# Altium footprint library 封装库.PcbLib: 324 footprints (part 14 of 21)
Each footprint in its own frame and in the unit in brackets; x right, y up, seen from the top. Pads: shape width x height; smd on the part's side, far side on the other; paste and mask are expansions set on the pad; w line width, h text height; cw(c..) or ccw(c..) is an arc to the next point about the centre after c.
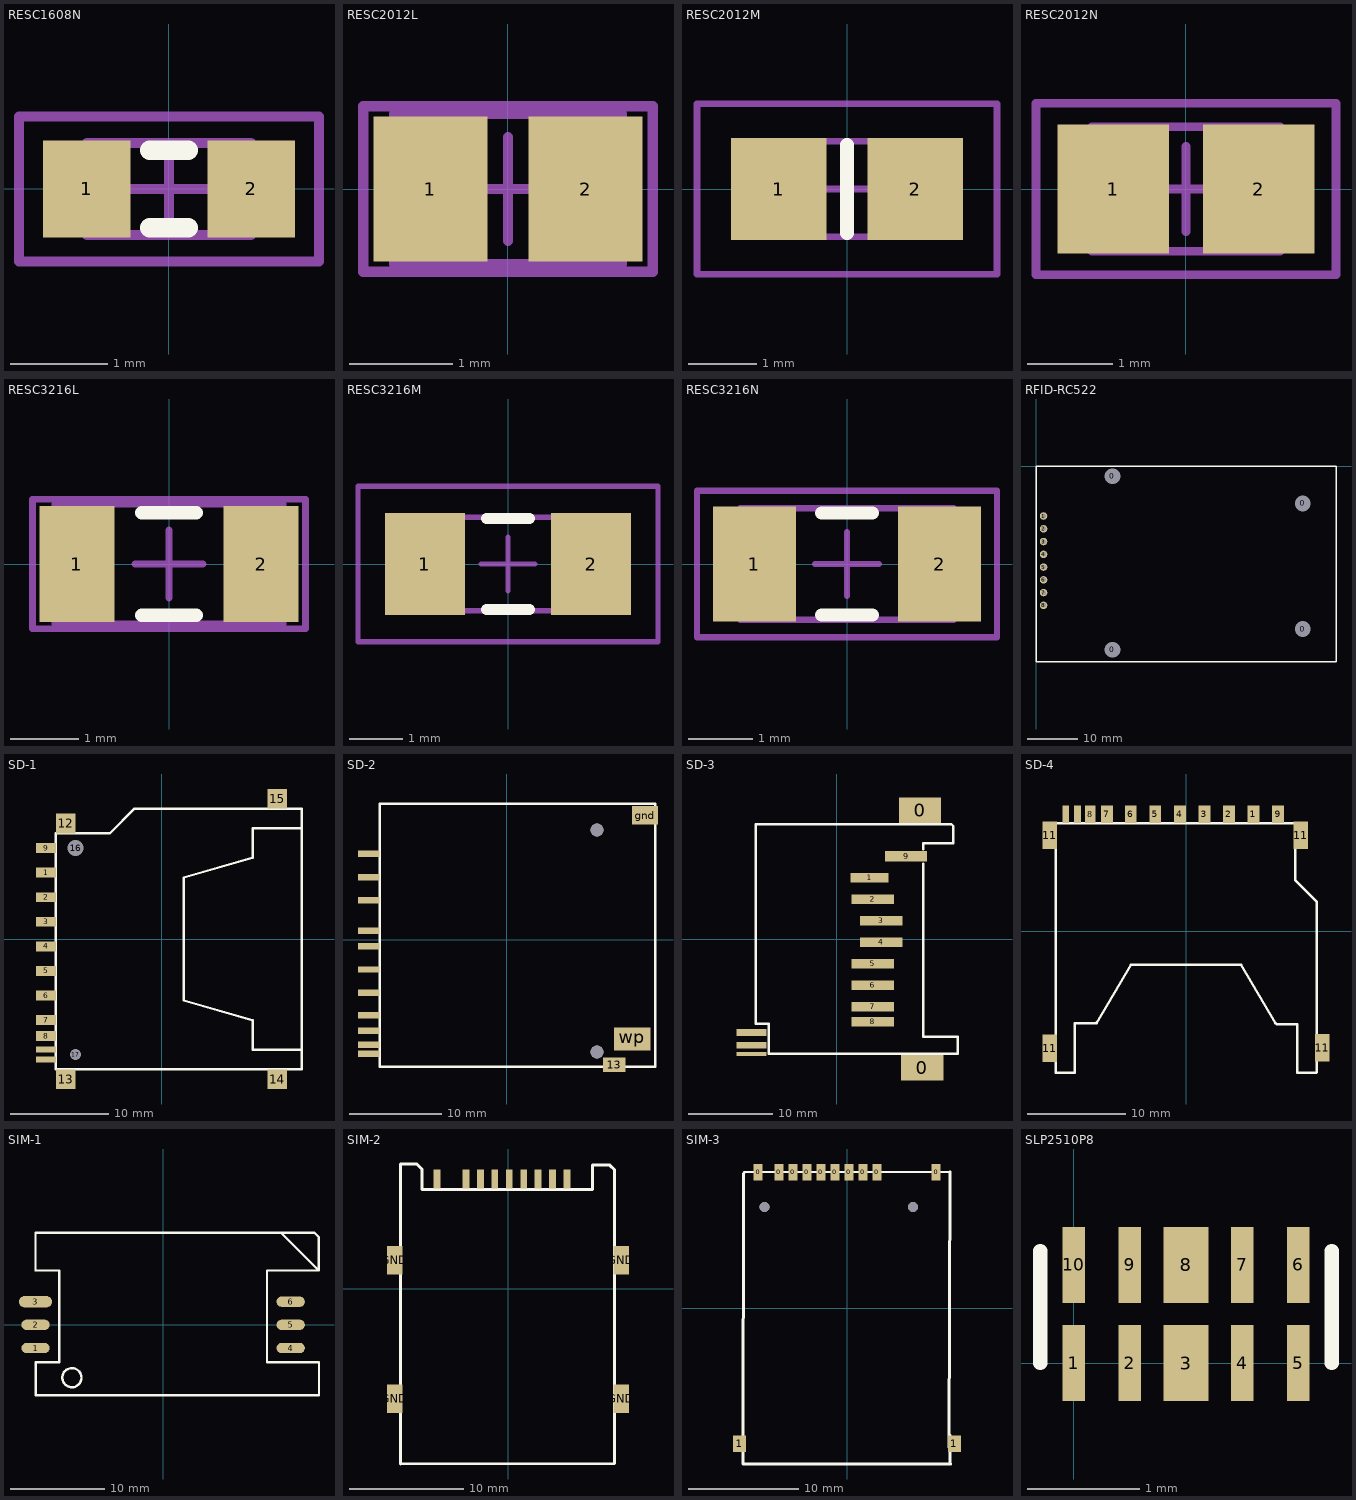
[diagram p13: the footprints below, top view; thin cyan lines are the x and y axes]

## RESC1608N [mm] "Chip Resistor, Body 1.6x0.8mm, IPC Medium Density"
height 0.6
pads (2):
  rect 0.9x1 smd: 1(-0.85,0) 2(0.85,0)
Top Overlay:
  lines w0.2: -0.2,-0.4 0.2,-0.4 ; -0.2,0.4 0.2,0.4
Mechanical 13:
  lines w0.1: -0.85,-0.475 -0.85,0.475 0.85,0.475 0.85,-0.475 -0.85,-0.475
Mechanical 15:
  lines w0.1: -0.475,0 0.475,0 ; 0,-0.475 0,0.475 ; -1.55,-0.75 -1.55,0.75 1.55,0.75 1.55,-0.75 -1.55,-0.75
3D body: height 0.6, standoff 0, extent -0.85,-0.475 0.85,0.475

## RESC2012L [mm] "Chip Resistor, Body 2.0x1.2mm, IPC Low Density"
height 0.7
pads (2):
  rect 1.1x1.4 smd: 1(-0.75,0) 2(0.75,0)
Mechanical 13:
  lines w0.1: -1.1,-0.725 1.1,-0.725 1.1,0.725 -1.1,0.725 -1.1,-0.725
Mechanical 15:
  lines w0.1: -0.5,0 0.5,0 ; 0,-0.5 0,0.5 ; -1.4,-0.8 1.4,-0.8 1.4,0.8 -1.4,0.8 -1.4,-0.8
3D body: height 1.4, standoff 0, extent -1.1,-0.725 1.1,0.725

## RESC2012M [mm] "Chip Resistor, Body 2.0x1.2mm, IPC Low Density"
height 0.7
pads (2):
  rect 1.4x1.5 smd: 1(-1,0) 2(1,0)
Top Overlay:
  lines w0.2: 0,-0.65 0,0.65
Mechanical 13:
  lines w0.1: -1.075,-0.7 -1.075,0.7 1.075,0.7 1.075,-0.7 -1.075,-0.7
Mechanical 15:
  lines w0.1: -0.5,0 0.5,0 ; 0,-0.5 0,0.5 ; -2.2,-1.25 -2.2,1.25 2.2,1.25 2.2,-1.25 -2.2,-1.25
3D body: height 0.7, standoff 0, extent -1.075,-0.7 1.075,0.7

## RESC2012N [mm] "Chip Resistor, Body 2.0x1.2mm, IPC Low Density"
height 1.1
pads (2):
  rect 1.3x1.5 smd: 1(-0.85,0) 2(0.85,0)
Mechanical 13:
  lines w0.1: -1.1,-0.725 1.1,-0.725 1.1,0.725 -1.1,0.725 -1.1,-0.725
Mechanical 15:
  lines w0.1: -0.5,0 0.5,0 ; 0,-0.5 0,0.5 ; -1.75,-1 1.75,-1 1.75,1 -1.75,1 -1.75,-1
3D body: height 1.1, standoff 0, extent -1.1,-0.725 1.1,0.725

## RESC3216L [mm] "Chip Resistor, Body 3.2x1.6mm, IPC High Density"
height 0.71
pads (2):
  rect 1.1x1.7 smd: 1(-1.35,0) 2(1.35,0)
Top Overlay:
  lines w0.2: -0.4,-0.75 0.4,-0.75 ; -0.4,0.75 0.4,0.75
Mechanical 13:
  lines w0.1: -1.675,-0.875 -1.675,0.875 1.675,0.875 1.675,-0.875 -1.675,-0.875
Mechanical 15:
  lines w0.1: -0.5,0 0.5,0 ; 0,-0.5 0,0.5 ; -2,-0.95 -2,0.95 2,0.95 2,-0.95 -2,-0.95
3D body: height 0.71, standoff 0, extent -1.675,-0.875 1.675,0.875

## RESC3216M [mm] "Chip Resistor, Body 3.2x1.6mm, IPC Low Density"
height 0.71
pads (2):
  rect 1.5x1.9 smd: 1(-1.55,0) 2(1.55,0)
Top Overlay:
  lines w0.2: -0.4,-0.85 0.4,-0.85 ; -0.4,0.85 0.4,0.85
Mechanical 13:
  lines w0.1: -1.675,-0.875 -1.675,0.875 1.675,0.875 1.675,-0.875 -1.675,-0.875
Mechanical 15:
  lines w0.1: -0.5,0 0.5,0 ; 0,-0.5 0,0.5 ; -2.8,-1.45 -2.8,1.45 2.8,1.45 2.8,-1.45 -2.8,-1.45
3D body: height 0.71, standoff 0, extent -1.675,-0.875 1.675,0.875

## RESC3216N [mm] "Chip Resistor, Body 3.2x1.6mm, IPC Medium Density"
height 0.71
pads (2):
  rect 1.3x1.8 smd: 1(-1.45,0) 2(1.45,0)
Top Overlay:
  lines w0.2: -0.4,-0.8 0.4,-0.8 ; -0.4,0.8 0.4,0.8
Mechanical 13:
  lines w0.1: -1.675,-0.875 1.675,-0.875 1.675,0.875 -1.675,0.875 -1.675,-0.875
Mechanical 15:
  lines w0.1: -0.5,0 0.5,0 ; 0,-0.5 0,0.5 ; -2.35,-1.15 2.35,-1.15 2.35,1.15 -2.35,1.15 -2.35,-1.15
3D body: height 0.71, standoff 0, extent -1.675,-0.875 1.675,0.875

## RFID-RC522 [mm] "RC522模块"
pads (12):
  round 2 hole 3.15 unplated: 0(15.2,-36.55) 0(15.2,-2.05) 0(53.1,-32.45) 0(53.1,-7.45)
  round 1.5 hole 0.9 unplated: 1(1.5,-9.95) 2(1.5,-12.49) 3(1.5,-15.03) 4(1.5,-17.57) 5(1.5,-20.11) 6(1.5,-22.65) 7(1.5,-25.19) 8(1.5,-27.73)
Top Overlay:
  lines w0.254: 0,-39 0,0 59.7,0 59.7,-39 0,-39

## SD-1 [mm]
pads (17):
  rect 2x1 smd: 1(-11.75,6.75) 2(-11.75,4.25) 3(-11.75,1.75) 4(-11.75,-0.75) 5(-11.75,-3.25) 6(-11.75,-5.75) 7(-11.75,-8.25) 8(-11.75,-9.875) 9(-11.75,9.25)
  rect 2x0.6 smd: 10(-11.75,-12.25) 11(-11.75,-11.25)
  rect 2x2 smd: 12(-9.75,11.75) 13(-9.75,-14.25) 14(11.75,-14.25) 15(11.75,14.25)
  round 1.5 hole 1.6: 16(-8.75,9.25)
  round 1 hole 1.1: 17(-8.75,-11.75)
Top Overlay:
  lines w0.254: 14.25,-11.25 9.25,-11.25 9.25,-8.25 2.25,-6.25 2.25,6.25 9.25,8.25 9.25,11.25 14.25,11.25 ; -10.75,-13.25 -10.75,10.75 -5.25,10.75 -2.75,13.25 14.25,13.25 14.25,-13.25 -10.75,-13.25

## SD-2 [mm]
pads (14):
  rect 2.35x0.7 smd: 1(-14.935,6.8) 2(-14.935,4.3) 3(-14.935,1) 4(-14.935,-0.7) 5(-14.935,-3.2) 6(-14.935,-5.7) 7(-14.935,-8.13) 8(-14.935,-9.82) 9(-14.935,9.3) cd(-14.935,-11.32) com(-14.935,-12.32)
  rect 2.4x1.6 smd: 13(11.595,-13.5)
  rect 2.8x2 smd: gnd(14.935,13.5)
  rect 3.95x2.5 smd: wp(13.565,-10.7)
via 9.735,11.9 diameter 1.4 hole 1.4
via 9.735,-12.1 diameter 1.4 hole 1.4
Top Overlay:
  lines w0.254: -13.76,-13.72 16.045,-13.72 16.045,14.72 -13.76,14.72 -13.76,-13.72

## SD-3 [mm]
pads (14):
  rect 5x3 smd: 0(9.843,15.24) 0(10.097,-15.24)
  rect 4.5x1.143 smd: 1(3.874,7.239)
  rect 5x1.143 smd: 2(4.255,4.699) 3(5.271,2.159) 4(5.271,-0.381) 5(4.255,-2.921) 6(4.255,-5.461) 7(4.255,-8.001) 8(4.255,-9.779)
  rect 5x1.27 smd: 9(8.192,9.779)
  rect 3.556x0.8 smd: 10(-10.097,-11.049) 11(-10.097,-12.573)
  rect 3.556x0.5 smd: 12(-10.097,-13.589)
Top Overlay:
  lines w0.3: 7.683,-13.589 14.287,-13.589 14.287,-11.557 10.223,-11.557 10.223,8.889 ; 8.191,-13.589 -8.065,-13.589 -8.065,-10.033 -9.589,-10.033 -9.589,13.589 8.191,13.589 13.525,13.589 13.779,13.335 13.779,11.303 10.223,11.303 10.223,10.59

## SD-4 [mm]
pads (15):
  rect 1.2x1.8 smd: 1(6.858,11.917) 2(4.369,11.917) 3(1.875,11.908) 4(-0.625,11.908) 5(-3.125,11.908) 6(-5.625,11.908) 7(-8.05,11.908) 9(9.375,11.908)
  rect 1.1x1.8 smd: 8(-9.754,11.917)
  rect 0.7x1.8 smd: 10(-11.05,11.908) 12(-12.243,11.917)
  rect 1.5x2.8 smd: 11(-13.868,-11.917) 11(-13.868,9.774) 11(11.684,9.774) 11(13.868,-11.866)
Top Overlay:
  lines w0.254: -11.3,-9.383 -11.3,-14.383 -13.273,-14.383 -13.273,11.003 -13.259,11.017 11.1,11.017 11.1,5.207 13.289,3.018 13.3,3.018 13.3,-14.356 13.273,-14.383 11.3,-14.383 11.3,-9.484 9.258,-9.484 9.1,-9.326 ; -11.249,-9.377 -9.207,-9.377 -9.049,-9.219 ; -9.1,-9.377 -5.588,-3.383 ; -5.6,-3.383 5.6,-3.383 9.1,-9.377
Multi-Layer:
  circle w0.254: c9.5,8.657 r0.82
  circle w0.254: c-11.532,8.617 r0.58

## SIM-1 [mm]
pads (6):
  oval 3x1.1 smd: 1(-13.5,-2.45) 2(-13.5,0) 4(13.5,-2.45) 5(13.5,0) 6(13.5,2.45)
  oval 3.5x1.2 smd: 3(-13.5,2.45)
Top Overlay:
  circle w0.254: c-9.652,-5.588 r1.016
  lines w0.254: -13.495,-7.43 -13.495,-3.95 -11,-3.95 -11,5.735 ; -13.475,-7.45 16.5,-7.45 ; -11,5.75 -13.492,5.75 -13.5,5.758 -13.5,9.75 16.011,9.75 16.467,9.294 16.467,5.75 ; 11,-3.95 11,5.75 16.467,5.75 ; 11.005,-3.95 14.923,-3.95 ; 12.467,9.75 16.467,5.75 ; 14.542,-3.95 16.495,-3.95 16.495,-7.445

## SIM-2 [mm]
pads (13):
  rect 0.6x1.65 smd: 0(-6.25,9.662) 0(-3.7,9.662) 0(-2.43,9.662) 0(-1.16,9.662) 0(0.11,9.662) 0(1.38,9.662) 0(2.65,9.662) 0(3.92,9.662) 0(5.19,9.662)
  rect 1.35x2.5 smd: GND(-9.95,-9.662) GND(-9.95,2.538) GND(9.95,-9.662) GND(9.95,2.537)
Top Overlay:
  lines w0.254: -9.44,-15.382 9.356,-15.331 9.356,10.475 8.949,10.882 7.425,10.882 7.425,8.748 -7.561,8.748 -7.561,10.526 -8.018,10.983 -9.186,10.983 -9.44,10.983 -9.44,-15.382

## SIM-3 [mm]
pads (12):
  rect 0.8x1.5 smd: 0(-8.07,12.325) 0(-6.17,12.325) 0(-4.9,12.325) 0(-3.63,12.325) 0(-2.36,12.325) 0(-1.09,12.325) 0(0.18,12.325) 0(1.45,12.325) 0(2.72,12.325) 0(8.08,12.325)
  rect 1.2x1.5 smd: 1(-9.75,-12.325) 1(9.75,-12.325)
via -7.5,9.175 diameter 0.9 hole 0.9
via 6,9.175 diameter 0.9 hole 0.9
Top Overlay:
  lines w0.254: 7.778,12.325 9.353,12.375 ; 9.251,-12.618 9.353,12.375 ; 9.353,-11.501 9.353,-14.091 9.404,-14.142 8.642,-14.142 -9.443,-14.142 -9.392,12.223 -9.291,12.325 9.353,12.375

## SLP2510P8 [mm]
pads (10):
  rect 0.2x0.675 smd: 1(0,0) 2(0.5,0) 4(1.5,0) 5(2,0) 6(2,0.875) 7(1.5,0.875) 9(0.5,0.875) 10(0,0.875)
  rect 0.4x0.675 smd: 3(1,0) 8(1,0.875)
Top Overlay:
  lines w0.127: -0.3,0 -0.3,1 ; 2.3,0 2.3,1